# Altium footprint library Batarey_connector.PcbLib: 1 footprints
Each footprint in its own frame and in the unit in brackets; x right, y up, seen from the top. Pads: shape width x height; smd on the part's side, far side on the other; paste and mask are expansions set on the pad; w line width, h text height; cw(c..) or ccw(c..) is an arc to the next point about the centre after c.
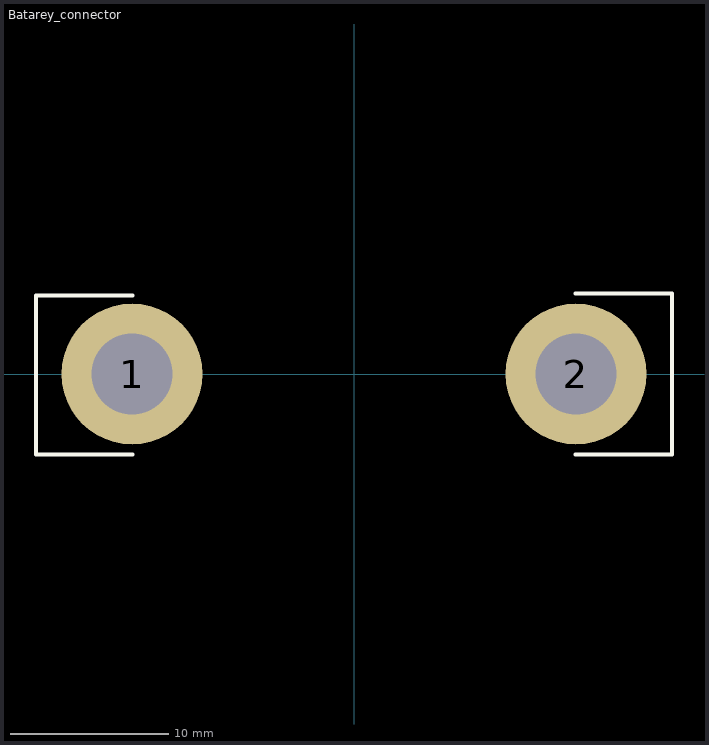
[diagram p0: the footprint, top view; thin cyan lines are the x and y axes]

## Batarey_connector [mm]
pads (2):
  round 8.89 hole 5.08: 1(-14,0) 2(14,0)
Top Overlay:
  lines w0.254: -13.97,-5.08 -20.066,-5.08 -20.066,4.953 -13.97,4.953 ; 13.97,-5.08 20.066,-5.08 20.066,5.08 13.97,5.08
Bottom Overlay:
  lines w0.254: -20.066,4.953 -20.066,-5.08 -13.97,-5.08 ; -20.002,4.953 -19.939,4.953 -13.97,4.953 ; 13.97,-5.08 20.066,-5.08 20.066,5.08 13.97,5.08